# Altium integrated library ESP32.IntLib: 1 symbol
Pins are listed as number, name and electrical type; pins without a type are passive.

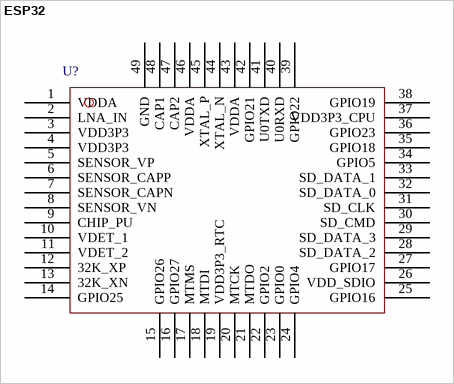
[diagram p0: symbol ESP32]

## ESP32
designator U?
footprint ESP32-5-5(QFN35P500X500X90-48N) (QFN, 48-Leads, Body 5.1x5.1mm (max), Pitch 0.35mm, IPC Medium Density)
footprint ESP32-6-6(QFN40P600X600X90_HS-49N) (QFN, 48-Leads, Body 6.00x6.00mm, Pitch 0.40mm, Thermal Pad 4.30x4.30mm, IPC Medium Density)
pins: 1 VDDA, 2 LNA_IN, 3 VDD3P3, 4 VDD3P3, 5 SENSOR_VP, 6 SENSOR_CAPP, 7 SENSOR_CAPN, 8 SENSOR_VN, 9 CHIP_PU, 10 VDET_1, 11 VDET_2, 12 32K_XP, 13 32K_XN, 14 GPIO25, 15 GPIO26, 16 GPIO27, 17 MTMS, 18 MTDI, 19 VDD3P3_RTC, 20 MTCK, 21 MTDO, 22 GPIO2, 23 GPIO0, 24 GPIO4, 25 GPIO16, 26 VDD_SDIO, 27 GPIO17, 28 SD_DATA_2, 29 SD_DATA_3, 30 SD_CMD, 31 SD_CLK, 32 SD_DATA_0, 33 SD_DATA_1, 34 GPIO5, 35 GPIO18, 36 GPIO23, 37 VDD3P3_CPU, 38 GPIO19, 39 GPIO22, 40 U0RXD, 41 U0TXD, 42 GPIO21, 43 VDDA, 44 XTAL_N, 45 XTAL_P, 46 VDDA, 47 CAP2, 48 CAP1, 49 GND